# Altium footprint library PCB - CRYSTALS - EPSON FA-128.PcbLib: 1 footprints
Each footprint in its own frame and in the unit in brackets; x right, y up, seen from the top. Pads: shape width x height; smd on the part's side, far side on the other; paste and mask are expansions set on the pad; w line width, h text height; cw(c..) or ccw(c..) is an arc to the next point about the centre after c.
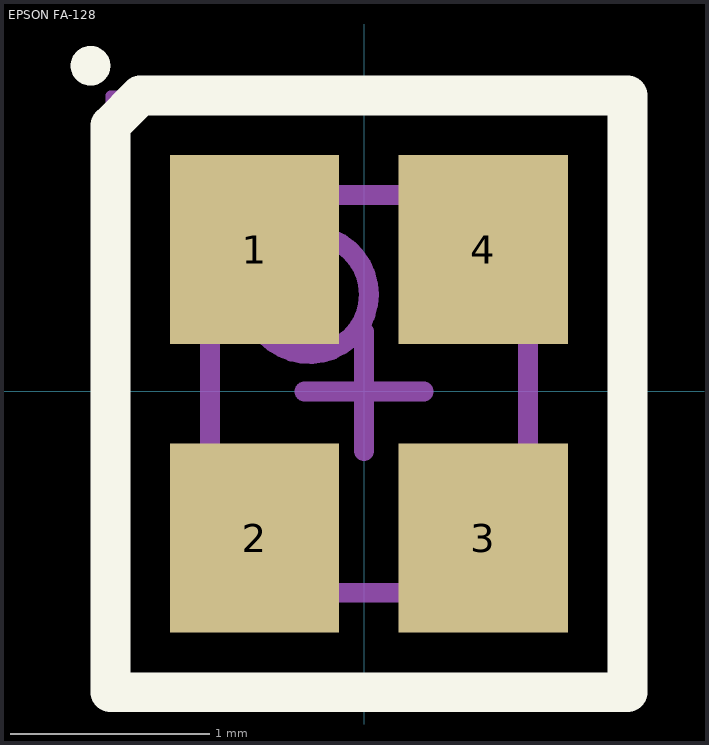
[diagram p0: the footprint, top view; thin cyan lines are the x and y axes]

## EPSON FA-128 [mm] "4-SMD, Body 2.00X1.60mm"
height 0.5
pads (4):
  rect 0.85x0.95 smd: 1(-0.551,0.712) 2(-0.551,-0.738) 3(0.599,-0.738) 4(0.599,0.712)
Top Overlay:
  circle w0.1: c-1.376,1.637 r0.05
  lines w0.2: -1.276,-1.513 -1.276,1.337 -1.126,1.487 1.324,1.487 1.324,-1.513 -1.276,-1.513
Mechanical 13:
  circle w0.1: c-0.276,0.487 r0.3
  lines w0.1: -0.776,-1.013 0.824,-1.013 0.824,0.987 -0.776,0.987 -0.776,-1.013
Mechanical 15:
  lines w0.05: -1.276,-1.513 -1.276,1.487 1.324,1.487 1.324,-1.513 -1.276,-1.513
Mechanical 2 (Mech9):
  lines w0.1: -0.3,0 0,0 ; 0,-0.3 0,0 ; 0,0.3 0,0 ; 0.3,0 0,0
3D body "Epson - FA-128 v1.step": height 0.5, standoff 0, extent -0.776,-1.013 0.824,0.987